# Altium schematic symbol library pcbLib.SchLib: 6 symbols
Pins are listed as number, name and electrical type; pins without a type are passive.

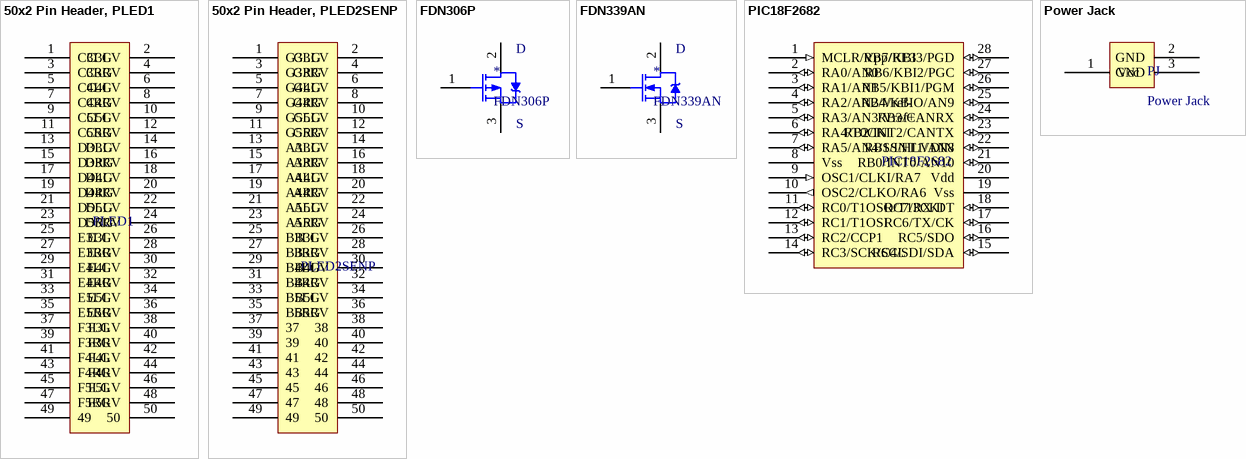
[diagram p0: symbols 50x2 Pin Header, PLED1 to Power Jack]

## 50x2 Pin Header, PLED1
designator PLED1  (value not drawn)
pins: 1 C3LG, 2 C3LV, 3 C3RG, 4 C3RV, 5 C4LG, 6 C4LV, 7 C4RG, 8 C4RV, 9 C5LG, 10 C5LV, 11 C5RG, 12 C5RV, 13 D3LG, 14 D3LV, 15 D3RG, 16 D3RV, 17 D4LG, 18 D4LV, 19 D4RG, 20 D4RV, 21 D5LG, 22 D5LV, 23 D5RG, 24 D5RV, 25 E3LG, 26 E3LV, 27 E3RG, 28 E3RV, 29 E4LG, 30 E4LV, 31 E4RG, 32 E4RV, 33 E5LG, 34 E5LV, 35 E5RG, 36 E5RV, 37 F3LG, 38 F3LV, 39 F3RG, 40 F3RV, 41 F4LG, 42 F4LV, 43 F4RG, 44 F4RV, 45 F5LG, 46 F5LV, 47 F5RG, 48 F5RV, 49, 50

## 50x2 Pin Header, PLED2SENP
designator PLED2SENP  (value not drawn)
pins: 1 G3LG, 2 G3LV, 3 G3RG, 4 G3RV, 5 G4LG, 6 G4LV, 7 G4RG, 8 G4RV, 9 G5LG, 10 G5LV, 11 G5RG, 12 G5RV, 13 A3LG, 14 A3LV, 15 A3RG, 16 A3RV, 17 A4LG, 18 A4LV, 19 A4RG, 20 A4RV, 21 A5LG, 22 A5LV, 23 A5RG, 24 A5RV, 25 B3LG, 26 B3LV, 27 B3RG, 28 B3RV, 29 B4LG, 30 B4LV, 31 B4RG, 32 B4RV, 33 B5LG, 34 B5LV, 35 B5RG, 36 B5RV, 37, 38, 39, 40, 41, 42, 43, 44, 45, 46, 47, 48, 49, 50

## FDN306P
designator *
Pch MOSFET
pins: 1 G, 2 D, 3 S

## FDN339AN
designator *
Nch MOSFET
pins: 1 G, 2 D, 3 S

## PIC18F2682
designator PIC18F2682
footprint DIP28
pins: 1 MCLR/Vpp/RE3 (in), 2 RA0/AN0 (io), 3 RA1/AN1 (io), 4 RA2/AN2/Vref- (io), 5 RA3/AN3/Vref+ (io), 6 RA4/T0CKI (io), 7 RA5/AN4/SS/HLVDIN (io), 8 Vss (power), 9 OSC1/CLKI/RA7 (in), 10 OSC2/CLKO/RA6 (out), 11 RC0/T1OSO/T13CKI (io), 12 RC1/T1OSI (io), 13 RC2/CCP1 (io), 14 RC3/SCK/SCL (io), 15 RC4/SDI/SDA (io), 16 RC5/SDO (io), 17 RC6/TX/CK (io), 18 RC7/RX/DT (io), 19 Vss (power), 20 Vdd (power), 21 RB0/INT0/AN10 (io), 22 RB1/INT1/AN8 (io), 23 RB2/INT2/CANTX (io), 24 RB3/CANRX (io), 25 RB4/KBIO/AN9 (io), 26 RB5/KBI1/PGM (io), 27 RB6/KBI2/PGC (io), 28 RB7/KBI3/PGD (io)

## Power Jack
designator PJ
pins: 1 Vcc, 2 GND, 3 GND